# EAGLE library part SN75240 (library IC)
Texas Instruments USB Port Transient Suppressor, Digi-Key Part Number 296-6596-1-ND,Manufacturer Part Number SN75240PWR,Description IC DUAL USB PORT TVS 8-TSSOP,Voltage - Working 6V,Supplier Device Package 8-TSSOP
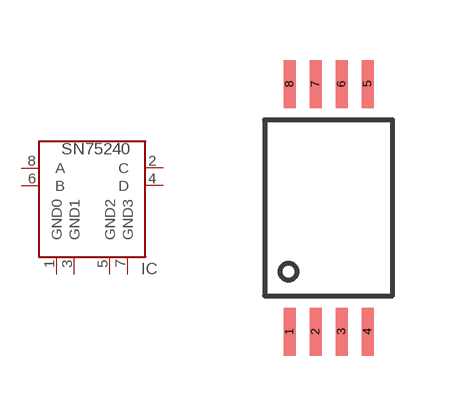
[diagram p196: symbol with the pads of TSSOP8; footprint TSSOP8]

Designator prefix IC

## SN75240  [TSSOP8]
1  GND0
2  C
3  GND1
4  D
5  GND2
6  B
7  GND3
8  A

## Footprint TSSOP8 (pad centres in mm)
smd 0.3 x 1.2: 1 -0.975,-3.1; 2 -0.325,-3.1; 3 0.325,-3.1; 4 0.975,-3.1; 5 0.975,3.1; 6 0.325,3.1; 7 -0.325,3.1; 8 -0.975,3.1